# EAGLE library part UCC28220D (library UCC28220D)
Dual Interleaved PWM Controller with Programmable Max Duty Cycle Source: Datasheet <http://www.ti.com/lit/gpn/ucc28220>
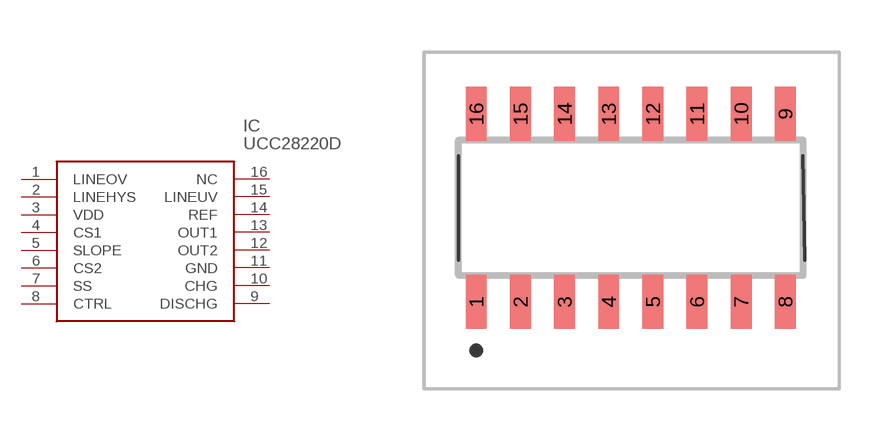
[diagram p0: symbol with the pads of UCC28220D; footprint UCC28220D]

Designator prefix IC

## UCC28220D (Description: Dual Interleaved PWM Controller with Programmable Max Duty Cycle; Height: 1.75mm; Manufacturer_Name: Texas Instruments; Manufacturer_Part_Number: UCC28220D; Mouser_Part_Number: 595-UCC28220D; Mouser_Price-Stock: https://www.mouser.co.uk/ProductDetail/Texas-Instruments/UCC28220D/?qs=eJkN62t4xTVBY%2FGqaPYojw%3D%3D)  [UCC28220D]
1  LINEOV
2  LINEHYS
3  VDD
4  CS1
5  SLOPE
6  CS2
7  SS
8  CTRL
9  DISCHG
10  CHG
11  GND
12  OUT2
13  OUT1
14  REF
15  LINEUV
16  NC  nc

## Footprint UCC28220D (pad centres in mm)
UCC28220D-2
smd 0.6 x 1.55: 1 -4.445,-2.7; 2 -3.175,-2.7; 3 -1.905,-2.7; 4 -0.635,-2.7; 5 0.635,-2.7; 6 1.905,-2.7; 7 3.175,-2.7; 8 4.445,-2.7; 9 4.445,2.7; 10 3.175,2.7; 11 1.905,2.7; 12 0.635,2.7; 13 -0.635,2.7; 14 -1.905,2.7; 15 -3.175,2.7; 16 -4.445,2.7